# EAGLE library part ATMEGA328* (library bardiir)
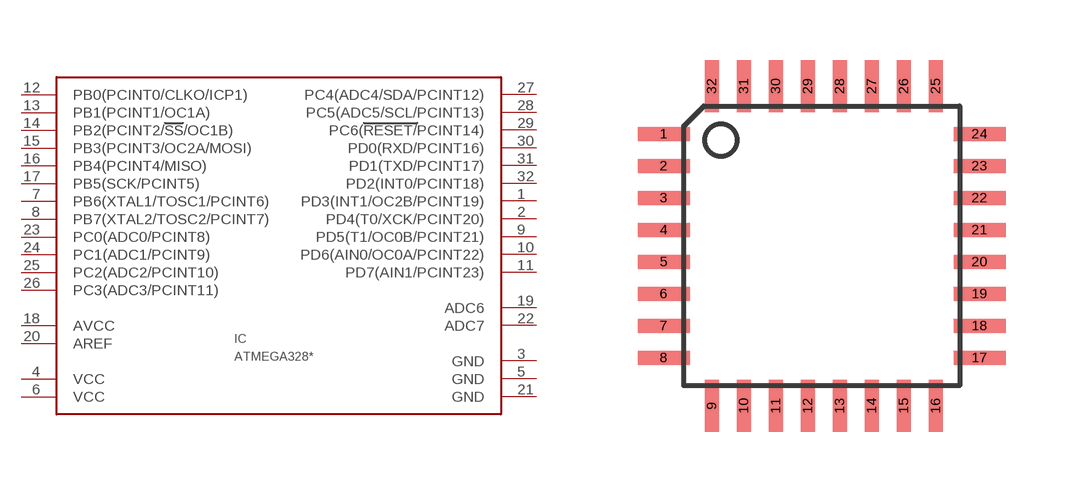
[diagram p2: symbol with the pads of TQFP-32A-32; footprint TQFP-32A-32]

Designator prefix IC

## ATMEGA328-AU(R)  [TQFP-32A-32]
1  PD3(INT1/OC2B/PCINT19)
2  PD4(T0/XCK/PCINT20)
3  GND
4  VCC
5  GND
6  VCC
7  PB6(XTAL1/TOSC1/PCINT6)
8  PB7(XTAL2/TOSC2/PCINT7)
9  PD5(T1/OC0B/PCINT21)
10  PD6(AIN0/OC0A/PCINT22)
11  PD7(AIN1/PCINT23)
12  PB0(PCINT0/CLKO/ICP1)
13  PB1(PCINT1/OC1A)
14  PB2(PCINT2/SS/OC1B)
15  PB3(PCINT3/OC2A/MOSI)
16  PB4(PCINT4/MISO)
17  PB5(SCK/PCINT5)
18  AVCC
19  ADC6
20  AREF
21  GND
22  ADC7
23  PC0(ADC0/PCINT8)
24  PC1(ADC1/PCINT9)
25  PC2(ADC2/PCINT10)
26  PC3(ADC3/PCINT11)
27  PC4(ADC4/SDA/PCINT12)
28  PC5(ADC5/SCL/PCINT13)
29  PC6(RESET/PCINT14)
30  PD0(RXD/PCINT16)
31  PD1(TXD/PCINT17)
32  PD2(INT0/PCINT18)

## Footprint TQFP-32A-32 (pad centres in mm)
smd 1.3 x 0.35: 1 -4,2.8; 2 -4,2; 3 -4,1.2; 4 -4,0.4; 5 -4,-0.4; 6 -4,-1.2; 7 -4,-2; 8 -4,-2.8; 17 3.9,-2.8; 18 3.9,-2; 19 3.9,-1.2; 20 3.9,-0.4; 21 3.9,0.4; 22 3.9,1.2; 23 3.9,2; 24 3.9,2.8
smd 0.35 x 1.3: 9 -2.8,-4; 10 -2,-4; 11 -1.2,-4; 12 -0.4,-4; 13 0.4,-4; 14 1.2,-4; 15 2,-4; 16 2.8,-4; 25 2.8,4; 26 2,4; 27 1.2,4; 28 0.4,4; 29 -0.4,4; 30 -1.2,4; 31 -2,4; 32 -2.8,4